# EAGLE library part R5NET (library CARA)
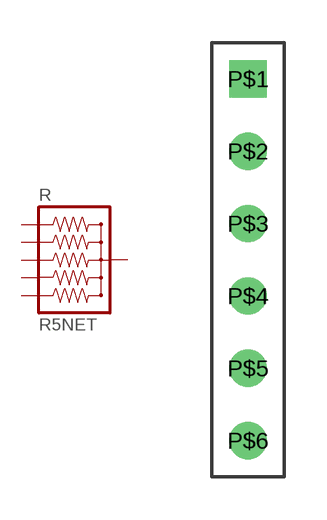
[diagram p2: symbol with the pads of SIL6; footprint SIL6]

Designator prefix R

## R5NETSIL6  [SIL6]
P$1  P$1
P$2  P$2
P$3  P$3
P$4  P$4
P$5  P$5
P$6  P$6

## Footprint SIL6 (pad centres in mm)
drill 0.8 square: P$1 0,6.35
drill 0.8: P$2 0,3.81; P$3 0,1.27; P$4 0,-1.27; P$5 0,-3.81; P$6 0,-6.35